# Altium footprint library PCB - CONNECTOR - MOLEX - MOLEX MICRO-FIT 3.0 0430450600.PCBLIB: 1 footprints
Each footprint in its own frame and in the unit in brackets; x right, y up, seen from the top. Pads: shape width x height; smd on the part's side, far side on the other; paste and mask are expansions set on the pad; w line width, h text height; cw(c..) or ccw(c..) is an arc to the next point about the centre after c.
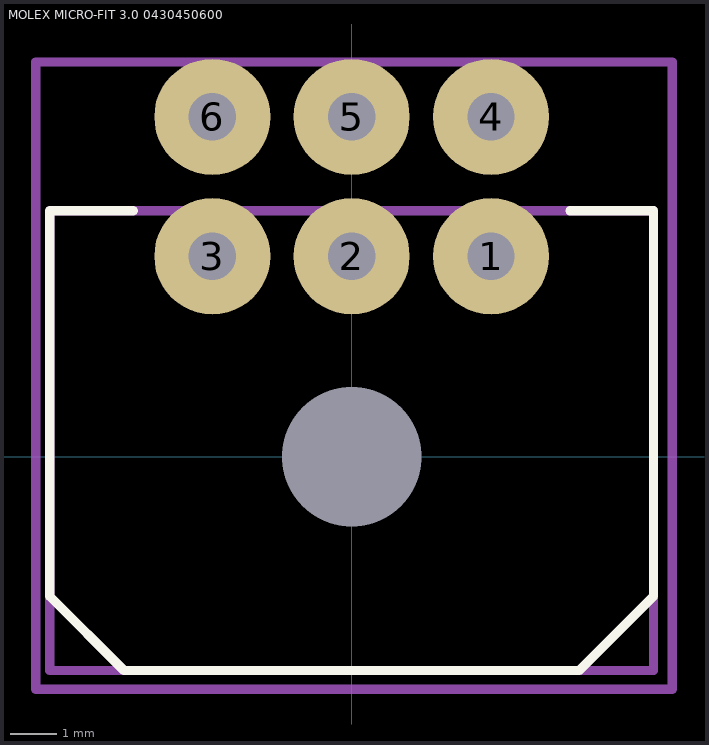
[diagram p0: the footprint, top view; thin cyan lines are the x and y axes]

## MOLEX MICRO-FIT 3.0 0430450600 [mm]
height 8.77
pads (7):
  round 2.5 hole 1.02 paste-5: 1(3,4.32) 2(0,4.32) 3(-3,4.32) 4(3,7.32) 5(0,7.32) 6(-3,7.32)
  oval 0.1x1 hole 3 unplated: M(0,0)
Top Overlay:
  lines w0.2: -4.7,5.3 -6.5,5.3 -6.5,-3 -4.9,-4.6 4.9,-4.6 6.5,-3 6.5,5.3 4.7,5.3
Mechanical 13:
  lines w0.2: -6.5,-4.6 6.5,-4.6 6.5,5.3 -6.5,5.3 -6.5,-4.6
Mechanical 15:
  lines w0.2: -0.508,0 0.508,0 ; 0,-0.508 0,0.508 ; -6.8,-5 -6.8,8.5 6.9,8.5 6.9,-0.214 6.9,-5 -6.8,-5
3D body "MOLEX 430450600.step": height 8.77, standoff -3.18, extent -6.575,-4.605 6.575,7.635